# EAGLE library part PS-2214-L-PUSHBUTTON (library mmoretti)
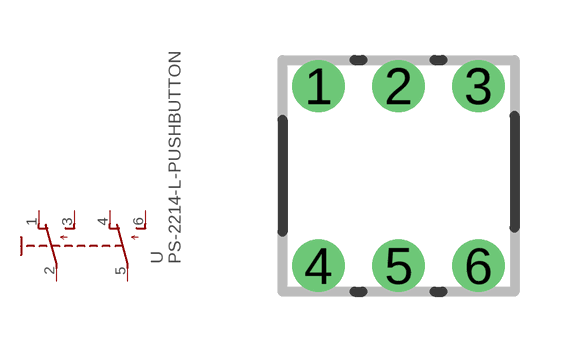
[diagram p2: symbol with the pads of PS-2214-L-PUSHBUTTON; footprint PS-2214-L-PUSHBUTTON]

Designator prefix -

## PS-2214-L-PUSHBUTTON  [PS-2214-L-PUSHBUTTON]
1  1  pas
2  2  pas
3  3  pas
4  4  pas
5  5  pas
6  6  pas

## Footprint PS-2214-L-PUSHBUTTON (pad centres in mm)
drill 0.8: 1 -2,2.25; 2 0,2.25; 3 2,2.25; 4 -2,-2.25; 5 0,-2.25; 6 2,-2.25